# Altium integrated library MCU.IntLib: 1 symbol
Pins are listed as number, name and electrical type; pins without a type are passive.

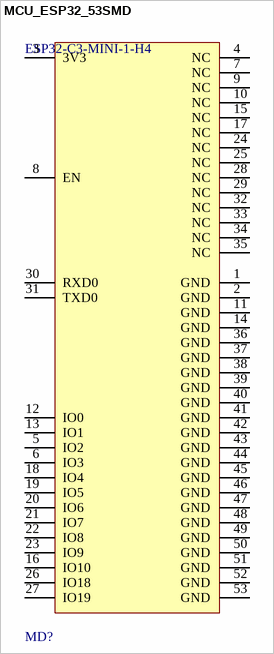
[diagram p0: symbol MCU_ESP32_53SMD]

## MCU_ESP32_53SMD
designator MD?, comment ESP32-C3-MINI-1-H4
Multiprotocol Modules SMD module, ESP32-C3FH4, PCB antenna, -40 C +105 C; Data Rate: 150Mbps; Number of GPIO: 13; Current - Transmitting: 350mA; Max Frequency: 2.484GHz; Current - Receiving: 84mA; Max Supply Voltage: 3.6V; Min Supply Voltage: 3V; Interface: SPI; Min Operating Temperature: -40°C; Height: 2.55mm; Ambient Temperature Range High: 85°C; Max Operating Temperature: 85°C
footprint FP-ESP32-C3-MINI-1-H4-MFG
pins: 1 GND, 2 GND, 3 3V3, 4 NC, 5 IO2, 6 IO3, 7 NC, 8 EN, 9 NC, 10 NC, 11 GND, 12 IO0, 13 IO1, 14 GND, 15 NC, 16 IO10, 17 NC, 18 IO4, 19 IO5, 20 IO6, 21 IO7, 22 IO8, 23 IO9, 24 NC, 25 NC, 26 IO18, 27 IO19, 28 NC, 29 NC, 30 RXD0, 31 TXD0, 32 NC, 33 NC, 34 NC, 35 NC, 36 GND, 37 GND, 38 GND, 39 GND, 40 GND, 41 GND, 42 GND, 43 GND, 44 GND, 45 GND, 46 GND, 47 GND, 48 GND, 49 GND, 50 GND, 51 GND, 52 GND, 53 GND